# Altium footprint library MCU.PcbLib: 2 footprints
Each footprint in its own frame and in the unit in brackets; x right, y up, seen from the top. Pads: shape width x height; smd on the part's side, far side on the other; paste and mask are expansions set on the pad; w line width, h text height; cw(c..) or ccw(c..) is an arc to the next point about the centre after c.
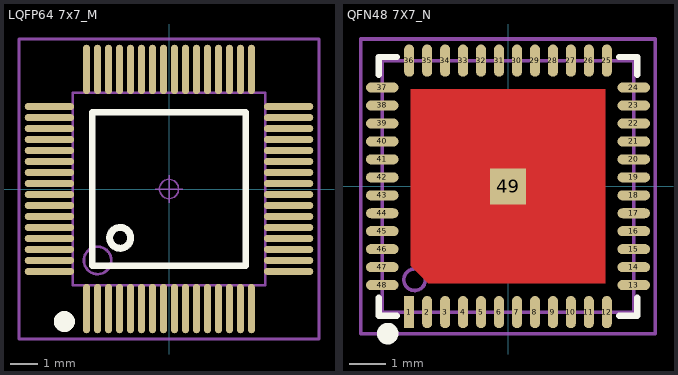
[diagram p0: the footprints below, top view; thin cyan lines are the x and y axes]

## LQFP64 7x7_M [mm] "64脚，体宽：7x7mm, 脚距：0.4mm"
pads (64):
  oval 0.26x1.8 smd: 1(-3,-4.352) 2(-2.6,-4.352) 3(-2.2,-4.352) 4(-1.8,-4.352) 5(-1.4,-4.352) 6(-1,-4.352) 7(-0.6,-4.352) 8(-0.2,-4.352) 9(0.2,-4.352) 10(0.6,-4.352) 11(1,-4.352) 12(1.4,-4.352) 13(1.8,-4.352) 14(2.2,-4.352) 15(2.6,-4.352) 16(3,-4.352) 33(3,4.352) 34(2.6,4.352) 35(2.2,4.352) 36(1.8,4.352) 37(1.4,4.352) 38(1,4.352) 39(0.6,4.352) 40(0.2,4.352) 41(-0.2,4.352) 42(-0.6,4.352) 43(-1,4.352) 44(-1.4,4.352) 45(-1.8,4.352) 46(-2.2,4.352) 47(-2.6,4.352) 48(-3,4.352)
  oval 1.8x0.26 smd: 17(4.352,-3) 18(4.352,-2.6) 19(4.352,-2.2) 20(4.352,-1.8) 21(4.352,-1.4) 22(4.352,-1) 23(4.352,-0.6) 24(4.352,-0.2) 25(4.352,0.2) 26(4.352,0.6) 27(4.352,1) 28(4.352,1.4) 29(4.352,1.8) 30(4.352,2.2) 31(4.352,2.6) 32(4.352,3) 49(-4.352,3) 50(-4.352,2.6) 51(-4.352,2.2) 52(-4.352,1.8) 53(-4.352,1.4) 54(-4.352,1) 55(-4.352,0.6) 56(-4.352,0.2) 57(-4.352,-0.2) 58(-4.352,-0.6) 59(-4.352,-1) 60(-4.352,-1.4) 61(-4.352,-1.8) 62(-4.352,-2.2) 63(-4.352,-2.6) 64(-4.352,-3)
Top Overlay:
  circle w0.508: c-3.81,-4.826 r0.127
  circle w0.254: c-1.778,-1.778 r0.381
  lines w0.254: -2.794,-2.794 -2.794,2.794 2.794,2.794 2.794,-2.794 -2.794,-2.794
Mechanical 13:
  circle w0.1: c-2.6,-2.6 r0.5
  lines w0.1: -3.5,-3.5 -3.5,3.5 3.5,3.5 3.5,-3.5 -3.5,-3.5
Mechanical 15:
  circle w0.05: c0,0 r0.35
  lines w0.05: -0.5,0 0.5,0 ; 0,-0.5 0,0.5
  lines w0.1: -5.461,-5.461 5.461,-5.461 5.461,5.461 -5.461,5.461 -5.461,-5.461
3D body "LQFP64-7x7.STEP": height 1.45, standoff 0, extent -4.503,-4.503 4.503,4.503

## QFN48 7X7_N [mm] "48脚，长x宽x高：7x7x1mm，脚距：0.5mm"
pads (49):
  rect 0.28x0.9 smd: 1(-2.75,-3.5)
  oval 0.28x0.9 smd: 2(-2.25,-3.5) 3(-1.75,-3.5) 4(-1.25,-3.5) 5(-0.75,-3.5) 6(-0.25,-3.5) 7(0.25,-3.5) 8(0.75,-3.5) 9(1.25,-3.5) 10(1.75,-3.5) 11(2.25,-3.5) 12(2.75,-3.5) 25(2.75,3.5) 26(2.25,3.5) 27(1.75,3.5) 28(1.25,3.5) 29(0.75,3.5) 30(0.25,3.5) 31(-0.25,3.5) 32(-0.75,3.5) 33(-1.25,3.5) 34(-1.75,3.5) 35(-2.25,3.5) 36(-2.75,3.5)
  oval 0.9x0.28 smd: 13(3.5,-2.75) 14(3.5,-2.25) 15(3.5,-1.75) 16(3.5,-1.25) 17(3.5,-0.75) 18(3.5,-0.25) 19(3.5,0.25) 20(3.5,0.75) 21(3.5,1.25) 22(3.5,1.75) 23(3.5,2.25) 24(3.5,2.75) 37(-3.5,2.75) 38(-3.5,2.25) 39(-3.5,1.75) 40(-3.5,1.25) 41(-3.5,0.75) 42(-3.5,0.25) 43(-3.5,-0.25) 44(-3.5,-0.75) 45(-3.5,-1.25) 46(-3.5,-1.75) 47(-3.5,-2.25) 48(-3.5,-2.75)
  rect 1x1 smd mask+0.051: 49(0,0)
Top Layer:
  region: -2.7,2.7 2.7,2.7 2.7,-2.7 -2.214,-2.7 -2.7,-2.214
Top Overlay:
  circle w0.3: c-3.35,-4.1 r0.15
  lines w0.178: -3.6,-3.1 -3.6,-3.6 -3.1,-3.6 ; -3.6,3.1 -3.6,3.6 -3.1,3.6 ; 3.1,-3.6 3.6,-3.6 3.6,-3.1 ; 3.1,3.6 3.6,3.6 3.6,3.1
Mechanical 13:
  circle w0.1: c-2.6,-2.6 r0.3
  lines w0.1: -3.5,-3.5 3.5,-3.5 3.5,3.5 -3.5,3.5 -3.5,-3.5
Mechanical 15:
  circle w0.05: c0,0 r0.35
  lines w0.05: -0.5,0 0.5,0 ; 0,-0.5 0,0.5
  lines w0.1: -4.1,-4.1 -4.1,4.1 4.1,4.1 4.1,-4.1 -4.1,-4.1
3D body "QFN48-7X7.STEP": height 0.95, standoff -0.05, extent -3.51,-3.51 3.51,3.51